# Altium footprint library RELAY_SR5-3V-200-1C.PcbLib: 1 footprints
Each footprint in its own frame and in the unit in brackets; x right, y up, seen from the top. Pads: shape width x height; smd on the part's side, far side on the other; paste and mask are expansions set on the pad; w line width, h text height; cw(c..) or ccw(c..) is an arc to the next point about the centre after c.
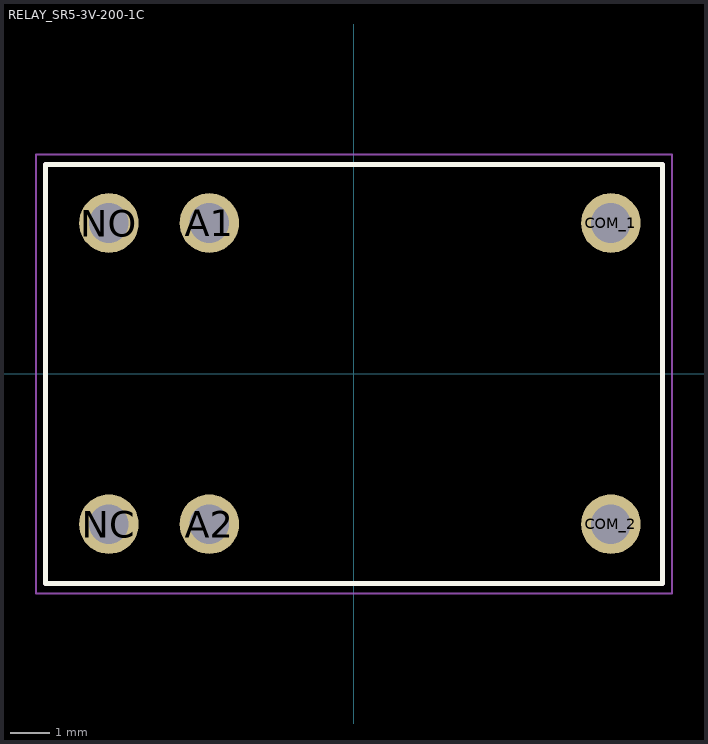
[diagram p0: the footprint, top view; thin cyan lines are the x and y axes]

## RELAY_SR5-3V-200-1C [mm]
height 12.1
pads (6):
  round 1.508 hole 1: A1(-3.66,3.82) A2(-3.66,-3.8) COM_1(6.5,3.82) COM_2(6.5,-3.8) NC(-6.2,-3.8) NO(-6.2,3.82)
Top Overlay:
  lines w0.127: -7.8,-5.3 -7.8,5.3 7.8,5.3 7.8,-5.3 -7.8,-5.3
Mechanical 13:
  lines w0.127: -7.8,-5.3 -7.8,5.3 7.8,5.3 7.8,-5.3 -7.8,-5.3
Mechanical 15:
  lines w0.05: -8.05,-5.55 -8.05,5.55 8.05,5.55 8.05,-5.55 -8.05,-5.55